# Altium integrated library S2B-PH-K-S_LF__SN_.IntLib: 1 symbol
Pins are listed as number, name and electrical type; pins without a type are passive.

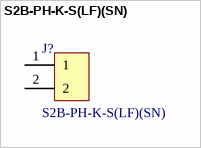
[diagram p0: symbol S2B-PH-K-S(LF)(SN)]

## S2B-PH-K-S(LF)(SN)
designator J?
PH Series 2 Position 2.0 mm Through Hole Side Entry Shrouded Header; MP: S2B-PH-K-S_LF__SN_; MF: JST Sales; SnapEDA_Link: https://www.snapeda.com/parts/S2B-PH-K-S%28LF%29%28SN%29/JST%20Sales%20America%20Inc./view-part/?ref=snap; Price: None; Availability: Unavailable; Package: None; Value: *
footprint *JST_S2B-PH-K-S(LF)(SN)
pins: 1, 2